# Altium schematic symbol library Microcontrollers.SchLib: 4 symbols
Pins are listed as number, name and electrical type; pins without a type are passive.

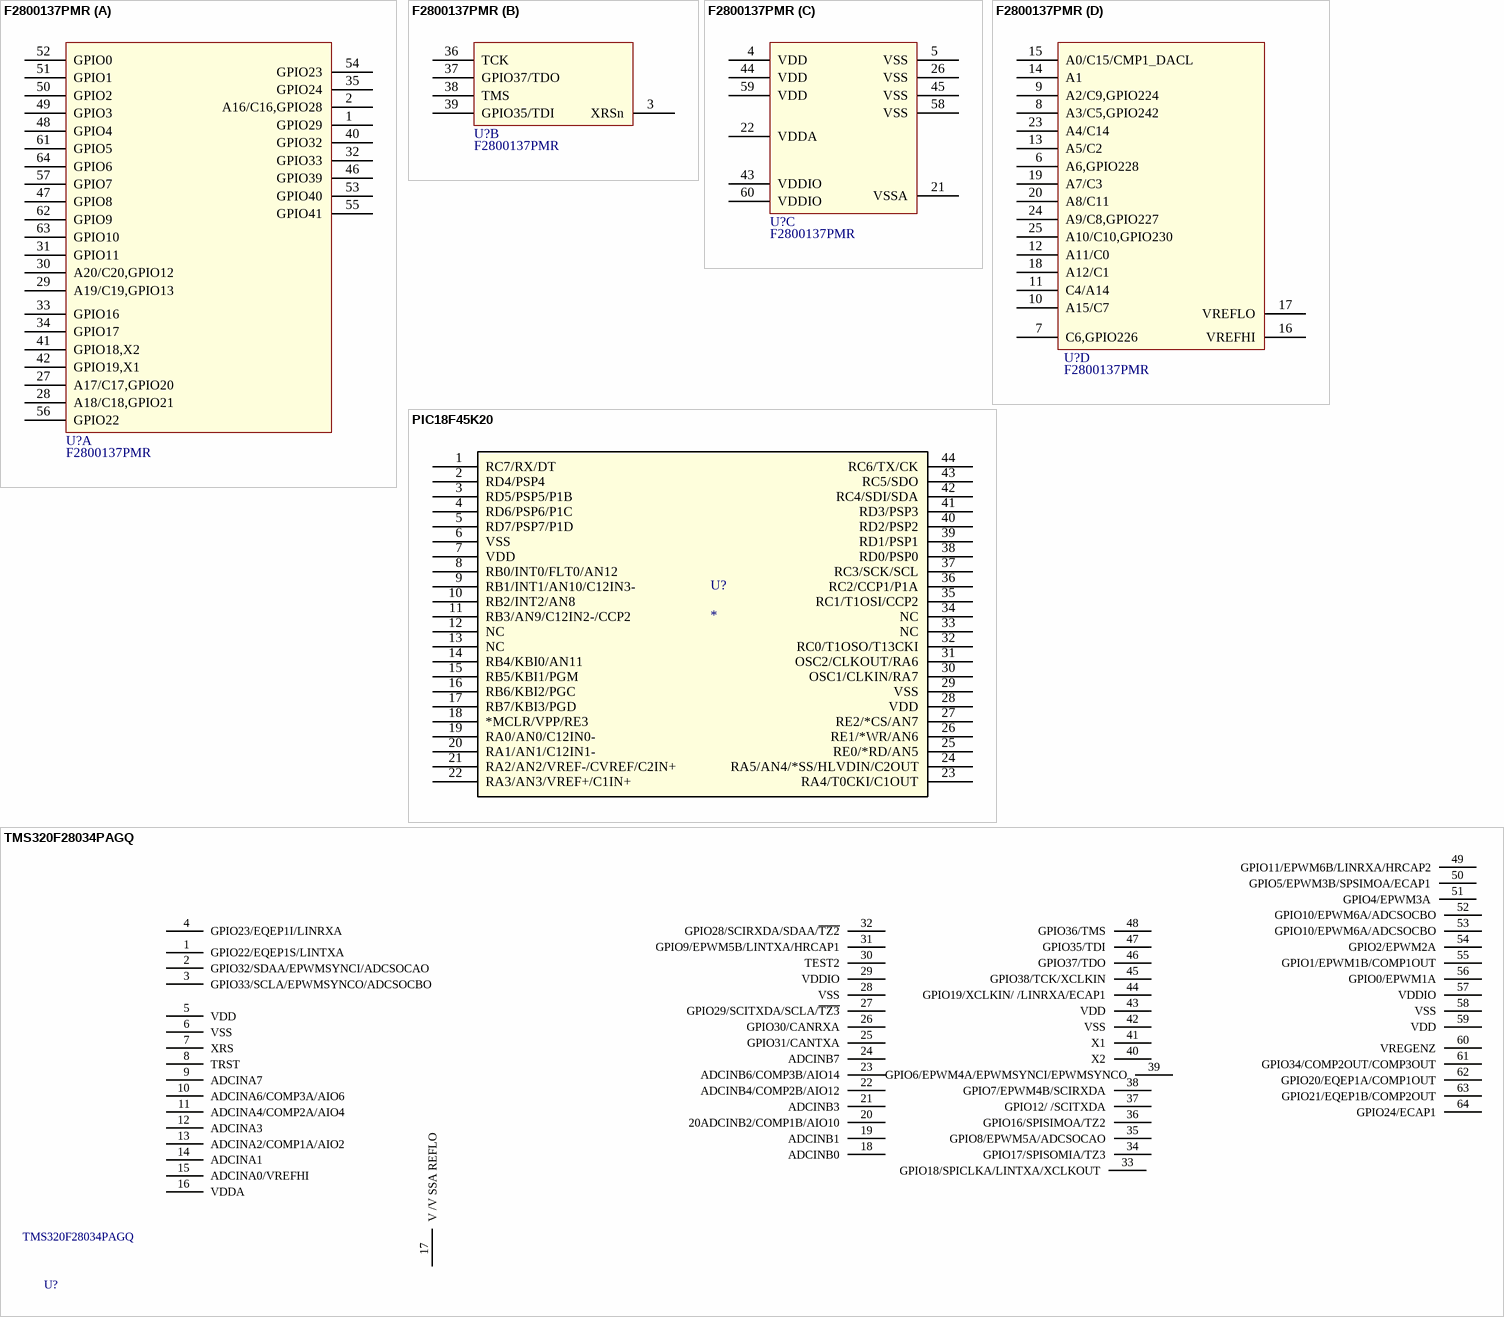
[diagram p0: symbols F2800137PMR to TMS320F28034PAGQ]

## F2800137PMR
designator U?
C2000 TI; Parameter 1: *
footprint TSQFP50P1200X1200X160-64M (TSQFP, 64-Leads, Body 10,30x10,30mm, Pitch 0,50mm, IPC Low Density)
part A pins: 1 GPIO29, 2 A16/C16,GPIO28, 27 A17/C17,GPIO20, 28 A18/C18,GPIO21, 29 A19/C19,GPIO13, 30 A20/C20,GPIO12, 31 GPIO11, 32 GPIO33, 33 GPIO16, 34 GPIO17, 35 GPIO24, 40 GPIO32, 41 GPIO18,X2, 42 GPIO19,X1, 46 GPIO39, 47 GPIO8, 48 GPIO4, 49 GPIO3, 50 GPIO2, 51 GPIO1, 52 GPIO0, 53 GPIO40, 54 GPIO23, 55 GPIO41, 56 GPIO22, 57 GPIO7, 61 GPIO5, 62 GPIO9, 63 GPIO10, 64 GPIO6
part B pins: 3 XRSn, 36 TCK, 37 GPIO37/TDO, 38 TMS, 39 GPIO35/TDI
part C pins: 4 VDD, 5 VSS, 21 VSSA, 22 VDDA, 26 VSS, 43 VDDIO, 44 VDD, 45 VSS, 58 VSS, 59 VDD, 60 VDDIO
part D pins: 6 A6,GPIO228, 7 C6,GPIO226, 8 A3/C5,GPIO242, 9 A2/C9,GPIO224, 10 A15/C7, 11 C4/A14, 12 A11/C0, 13 A5/C2, 14 A1, 15 A0/C15/CMP1_DACL, 16 VREFHI, 17 VREFLO, 18 A12/C1, 19 A7/C3, 20 A8/C11, 23 A4/C14, 24 A9/C8,GPIO227, 25 A10/C10,GPIO230

## PIC18F45K20
designator U?
footprint TQFP44_MC_MCH
pins: 1 RC7/RX/DT, 2 RD4/PSP4, 3 RD5/PSP5/P1B, 4 RD6/PSP6/P1C, 5 RD7/PSP7/P1D, 6 VSS, 7 VDD, 8 RB0/INT0/FLT0/AN12, 9 RB1/INT1/AN10/C12IN3-, 10 RB2/INT2/AN8, 11 RB3/AN9/C12IN2-/CCP2, 12 NC, 13 NC, 14 RB4/KBI0/AN11, 15 RB5/KBI1/PGM, 16 RB6/KBI2/PGC, 17 RB7/KBI3/PGD, 18 *MCLR/VPP/RE3, 19 RA0/AN0/C12IN0-, 20 RA1/AN1/C12IN1-, 21 RA2/AN2/VREF-/CVREF/C2IN+, 22 RA3/AN3/VREF+/C1IN+, 23 RA4/T0CKI/C1OUT, 24 RA5/AN4/*SS/HLVDIN/C2OUT, 25 RE0/*RD/AN5, 26 RE1/*WR/AN6, 27 RE2/*CS/AN7, 28 VDD, 29 VSS, 30 OSC1/CLKIN/RA7, 31 OSC2/CLKOUT/RA6, 32 RC0/T1OSO/T13CKI, 33 NC, 34 NC, 35 RC1/T1OSI/CCP2, 36 RC2/CCP1/P1A, 37 RC3/SCK/SCL, 38 RD0/PSP0, 39 RD1/PSP1, 40 RD2/PSP2, 41 RD3/PSP3, 42 RC4/SDI/SDA, 43 RC5/SDO, 44 RC6/TX/CK

## TMS320F28034PAGQ
designator U?
C2000 TI
pins: 1 GPIO22/EQEP1S/LINTXA, 2 GPIO32/SDAA/EPWMSYNCI/ADCSOCAO, 3 GPIO33/SCLA/EPWMSYNCO/ADCSOCBO, 4 GPIO23/EQEP1I/LINRXA, 5 VDD, 6 VSS, 7 XRS, 8 TRST, 9 ADCINA7, 10 ADCINA6/COMP3A/AIO6, 11 ADCINA4/COMP2A/AIO4, 12 ADCINA3, 13 ADCINA2/COMP1A/AIO2, 14 ADCINA1, 15 ADCINA0/VREFHI, 16 VDDA, 17 V /V SSA REFLO, 18 ADCINB0, 19 ADCINB1, 20 20ADCINB2/COMP1B/AIO10, 21 ADCINB3, 22 ADCINB4/COMP2B/AIO12, 23 ADCINB6/COMP3B/AIO14, 24 ADCINB7, 25 GPIO31/CANTXA, 26 GPIO30/CANRXA, 27 GPIO29/SCITXDA/SCLA/~{TZ3}, 28 VSS, 29 VDDIO, 30 TEST2, 31 GPIO9/EPWM5B/LINTXA/HRCAP1, 32 GPIO28/SCIRXDA/SDAA/~{TZ2}, 33 GPIO18/SPICLKA/LINTXA/XCLKOUT, 34 GPIO17/SPISOMIA/TZ3, 35 GPIO8/EPWM5A/ADCSOCAO, 36 GPIO16/SPISIMOA/TZ2, 37 GPIO12/ /SCITXDA, 38 GPIO7/EPWM4B/SCIRXDA, 39 GPIO6/EPWM4A/EPWMSYNCI/EPWMSYNCO, 40 X2, 41 X1, 42 VSS, 43 VDD, 44 GPIO19/XCLKIN/ /LINRXA/ECAP1, 45 GPIO38/TCK/XCLKIN, 46 GPIO37/TDO, 47 GPIO35/TDI, 48 GPIO36/TMS, 49 GPIO11/EPWM6B/LINRXA/HRCAP2, 50 GPIO5/EPWM3B/SPSIMOA/ECAP1, 51 GPIO4/EPWM3A, 52 GPIO10/EPWM6A/ADCSOCBO, 53 GPIO10/EPWM6A/ADCSOCBO, 54 GPIO2/EPWM2A, 55 GPIO1/EPWM1B/COMP1OUT, 56 GPIO0/EPWM1A, 57 VDDIO, 58 VSS, 59 VDD, 60 VREGENZ, 61 GPIO34/COMP2OUT/COMP3OUT, 62 GPIO20/EQEP1A/COMP1OUT, 63 GPIO21/EQEP1B/COMP2OUT, 64 GPIO24/ECAP1

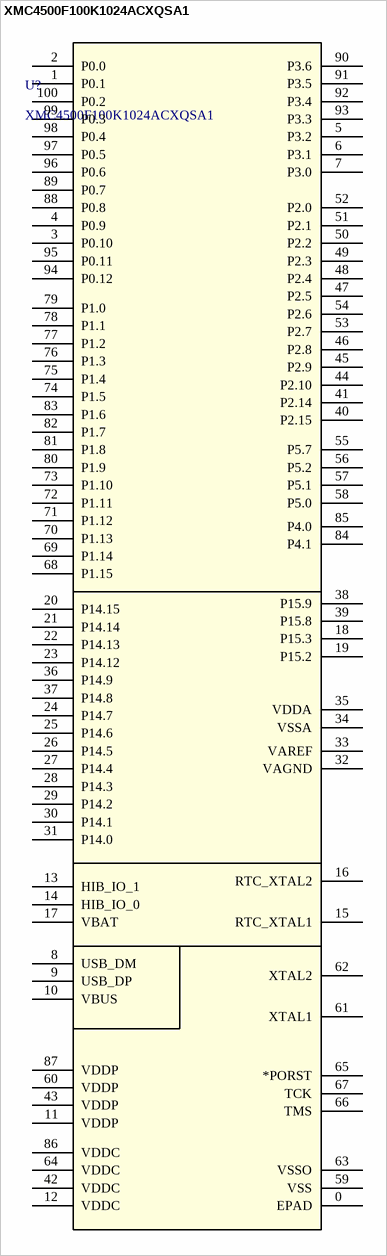
[diagram p1: symbol XMC4500F100K1024ACXQSA1]

## XMC4500F100K1024ACXQSA1
designator U?
XMC 4000 Series; Vendor: Infineon; Built_By: EMA_UL_Team; SourceLibrary: Infineon_2019-12-20; Manufacturer_Part_Number: XMC4500F100K1024ACXQSA1; Copyright: Copyright (C) 2018 Accelerated Designs. All rights reserved; RefDes: RefDes; Type: DEV
footprint PG-LQFP-100-11_INF-M
pins: 0 EPAD (power), 1 P0.1, 2 P0.0, 3 P0.10, 4 P0.9, 5 P3.2, 6 P3.1, 7 P3.0, 8 USB_DM, 9 USB_DP, 10 VBUS (power), 11 VDDP (power), 12 VDDC (power), 13 HIB_IO_1, 14 HIB_IO_0, 15 RTC_XTAL1, 16 RTC_XTAL2, 17 VBAT (power), 18 P15.3, 19 P15.2, 20 P14.15, 21 P14.14, 22 P14.13, 23 P14.12, 24 P14.7, 25 P14.6, 26 P14.5, 27 P14.4, 28 P14.3, 29 P14.2, 30 P14.1, 31 P14.0, 32 VAGND, 33 VAREF, 34 VSSA, 35 VDDA, 36 P14.9, 37 P14.8, 38 P15.9, 39 P15.8, 40 P2.15, 41 P2.14, 42 VDDC (power), 43 VDDP (power), 44 P2.10, 45 P2.9, 46 P2.8, 47 P2.5, 48 P2.4, 49 P2.3, 50 P2.2, 51 P2.1, 52 P2.0, 53 P2.7, 54 P2.6, 55 P5.7, 56 P5.2, 57 P5.1, 58 P5.0, 59 VSS (power), 60 VDDP (power), 61 XTAL1, 62 XTAL2, 63 VSSO (power), 64 VDDC (power), 65 *PORST, 66 TMS, 67 TCK, 68 P1.15, 69 P1.14, 70 P1.13, 71 P1.12, 72 P1.11, 73 P1.10, 74 P1.5, 75 P1.4, 76 P1.3, 77 P1.2, 78 P1.1, 79 P1.0, 80 P1.9, 81 P1.8, 82 P1.7, 83 P1.6, 84 P4.1, 85 P4.0, 86 VDDC (power), 87 VDDP (power), 88 P0.8, 89 P0.7, 90 P3.6, 91 P3.5, 92 P3.4, 93 P3.3, 94 P0.12, 95 P0.11, 96 P0.6, 97 P0.5, 98 P0.4, 99 P0.3, 100 P0.2